# EAGLE library part STM32F4-DISCOVERY (library ARVP_Linear_Technology)
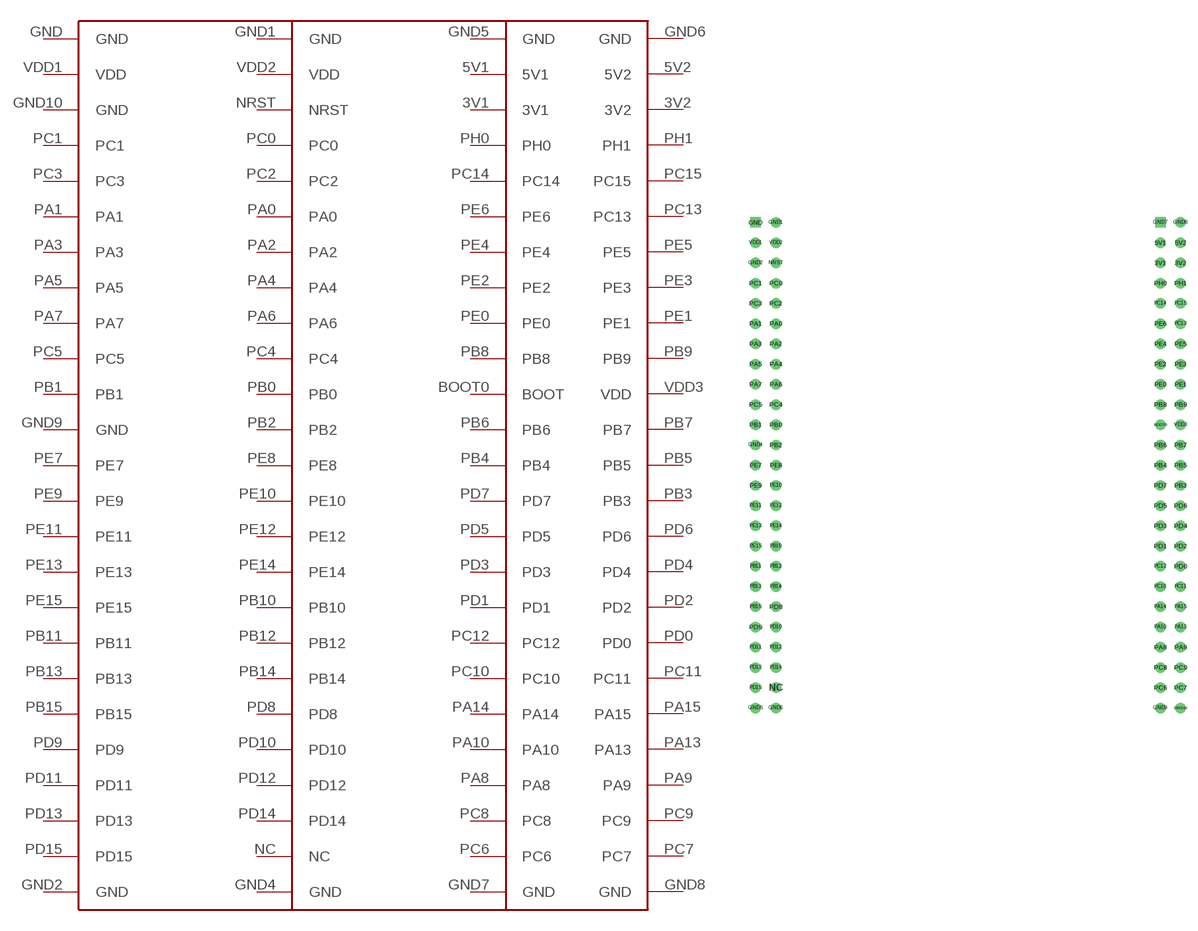
[diagram p6: symbol with the pads of STM32F4-DISCOVERY; footprint STM32F4-DISCOVERY]

Designator prefix -

## STM32F4-DISCOVERY  [STM32F4-DISCOVERY]
3V1  3V1
3V2  3V2
5V1  5V1
5V2  5V2
BOOT0  BOOT
GND  GND
GND1  GND
GND2  GND
GND4  GND
GND5  GND
GND6  GND
GND7  GND
GND8  GND
GND9  GND
GND10  GND
NC  NC
NRST  NRST
PA0  PA0
PA1  PA1
PA2  PA2
PA3  PA3
PA4  PA4
PA5  PA5
PA6  PA6
PA7  PA7
PA8  PA8
PA9  PA9
PA10  PA10
PA13  PA13
PA14  PA14
PA15  PA15
PB0  PB0
PB1  PB1
PB2  PB2
PB3  PB3
PB4  PB4
PB5  PB5
PB6  PB6
PB7  PB7
PB8  PB8
PB9  PB9
PB10  PB10
PB11  PB11
PB12  PB12
PB13  PB13
PB14  PB14
PB15  PB15
PC0  PC0
PC1  PC1
PC2  PC2
PC3  PC3
PC4  PC4
PC5  PC5
PC6  PC6
PC7  PC7
PC8  PC8
PC9  PC9
PC10  PC10
PC11  PC11
PC12  PC12
PC13  PC13
PC14  PC14
PC15  PC15
PD0  PD0
PD1  PD1
PD2  PD2
PD3  PD3
PD4  PD4
PD5  PD5
PD6  PD6
PD7  PD7
PD8  PD8
PD9  PD9
PD10  PD10
PD11  PD11
PD12  PD12
PD13  PD13
PD14  PD14
PD15  PD15
PE0  PE0
PE1  PE1
PE2  PE2
PE3  PE3
PE4  PE4
PE5  PE5
PE6  PE6
PE7  PE7
PE8  PE8
PE9  PE9
PE10  PE10
PE11  PE11
PE12  PE12
PE13  PE13
PE14  PE14
PE15  PE15
PH0  PH0
PH1  PH1
VDD1  VDD
VDD2  VDD
VDD3  VDD

## Footprint STM32F4-DISCOVERY (pad centres in mm)
drill 0.8 round: 3V1 24.13,25.4; 3V2 26.67,25.4; 5V1 24.13,27.94; 5V2 26.67,27.94; BOOT0 24.13,5.08; GND1 -24.13,30.48; GND2 -26.67,25.4; GND4 -26.67,2.54; GND5 -26.67,-30.48; GND6 -24.13,-30.48; GND8 26.67,30.48; GND9 24.13,-30.48; GND10 26.67,-30.48; NC -24.13,-27.94; NRST -24.13,25.4; PA0 -24.13,17.78; PA1 -26.67,17.78; PA2 -24.13,15.24; PA3 -26.67,15.24; PA4 -24.13,12.7; PA5 -26.67,12.7; PA6 -24.13,10.16; PA7 -26.67,10.16; PA8 24.13,-22.86; PA9 26.67,-22.86; PA10 24.13,-20.32; PA13 26.67,-20.32; PA14 24.13,-17.78; PA15 26.67,-17.78; PB0 -24.13,5.08; PB1 -26.67,5.08; PB2 -24.13,2.54; PB3 26.67,-2.54; PB4 24.13,0; PB5 26.67,0; PB6 24.13,2.54; PB7 26.67,2.54; PB8 24.13,7.62; PB9 26.67,7.62; PB10 -24.13,-10.16; PB11 -26.67,-12.7; PB12 -24.13,-12.7; PB13 -26.67,-15.24; PB14 -24.13,-15.24; PB15 -26.67,-17.78; PC0 -24.13,22.86; PC1 -26.67,22.86; PC2 -24.13,20.32; PC3 -26.67,20.32; PC4 -24.13,7.62; PC5 -26.67,7.62; PC6 24.13,-27.94; PC7 26.67,-27.94; PC8 24.13,-25.4; PC9 26.67,-25.4; PC10 24.13,-15.24; PC11 26.67,-15.24; PC12 24.13,-12.7; PC13 26.67,17.78; PC14 24.13,20.32; PC15 26.67,20.32; PD0 26.67,-12.7; PD1 24.13,-10.16; PD2 26.67,-10.16; PD3 24.13,-7.62; PD4 26.67,-7.62; PD5 24.13,-5.08; PD6 26.67,-5.08; PD7 24.13,-2.54; PD8 -24.13,-17.78; PD9 -26.67,-20.32; PD10 -24.13,-20.32; PD11 -26.67,-22.86; PD12 -24.13,-22.86; PD13 -26.67,-25.4; PD14 -24.13,-25.4; PD15 -26.67,-27.94; PE0 24.13,10.16; PE1 26.67,10.16; PE2 24.13,12.7; PE3 26.67,12.7; PE4 24.13,15.24; PE5 26.67,15.24; PE6 24.13,17.78; PE7 -26.67,0; PE8 -24.13,0; PE9 -26.67,-2.54; PE10 -24.13,-2.54; PE11 -26.67,-5.08; PE12 -24.13,-5.08; PE13 -26.67,-7.62; PE14 -24.13,-7.62; PE15 -26.67,-10.16; PH0 24.13,22.86; PH1 26.67,22.86; VDD1 -26.67,27.94; VDD2 -24.13,27.94; VDD3 26.67,5.08
drill 0.8 square: GND -26.67,30.48; GND7 24.13,30.48